# Altium integrated library TI Amplifiers and Linear Operational Amplifier High Speed.IntLib: 1100 symbols (part 19 of 44)
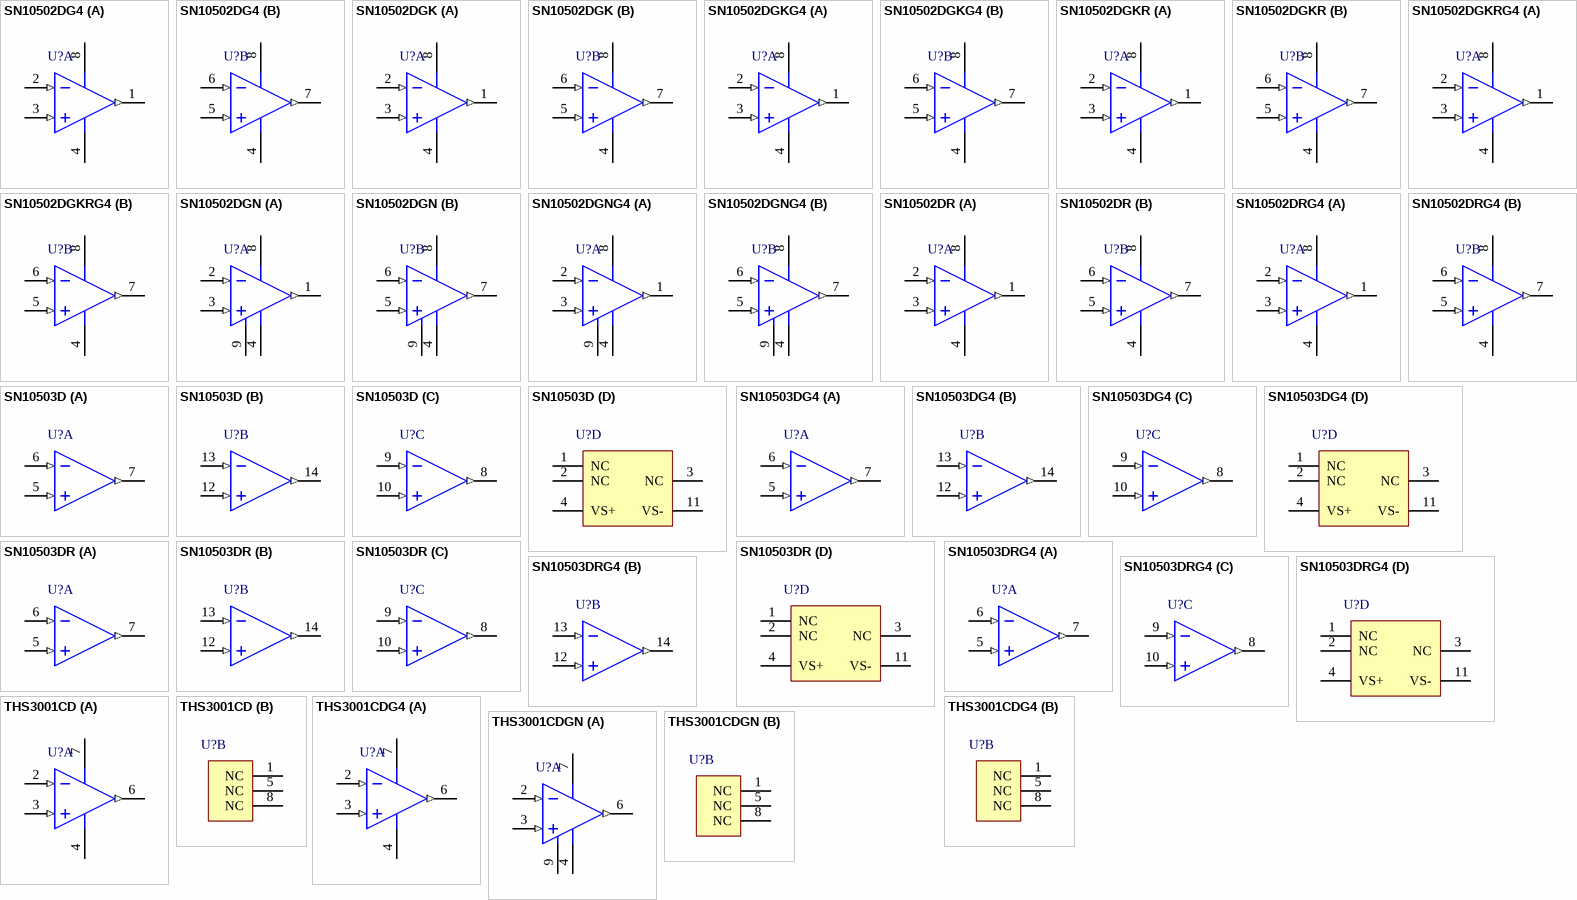
[diagram p69: symbols SN10502DG4 to THS3001CDGN]

## SN10502DR
designator U?
Low-Distortion High-Speed Rail-to-Rail Output Operational Amplifier, 2.7 to 16 V, -40 to 85 degC, 8-pin SOIC (D8), Green (RoHS & no Sb/Br); Manufacturer: Texas Instruments; PartNumber: SN10502DR; 2nd Harmonic(dBc): 78; 3rd Harmonic(dBc): 85; @ MHz: 5; Acl, min stable gain(V/V): 1; BW @ Acl(MHz): 100; Diff Gain(%): 0.007; Iib(Max)(nA): 5000; Iq per channel(Max)(mA): 22; Number of Channels: 2; Settling Time (0.1%)(Typ)(ns): 25; Slew Rate(Typ)(V/us): 900; Sub Family: High Output Current Amplifier (>=50mA), High Speed Amplifier (>=50MHz); THD (Fc is 1 MHz)(Typ)(dB): -78; Vio(Max)(mV): 30; Vn at Flatband(Typ)(nV/rtHz): 13; Vs(Max)(V): 16; Vs(Min)(V): 2.7; DatasheetVersion: SLOS408B; PackageVersion: 4040047-3/M, 06/2011; PackageReference: D8; PackageDescription: 8-Pin Plastic Small Outline, Body 4.9 x 3.9 mm, Pitch 1.27 mm; Supplier 1: Digi-Key; Supplier Part Number 1: SN10502DR-ND; Supplier 2: Newark; Supplier Part Number 2: 73H4402; Supplier 3: Mouser; Supplier Part Number 3: 595-SN10502DR; Diff Phase(deg): 0.007; Eco-Plan: Green (RoHS & no Sb/Br); Io(Typ)(mA): 100; Mounting Technology: Surface Mount; Code_JEDEC: MS-012; ComponentLink1Description: Manufacturer URL; ComponentLink1URL: http://www.ti.com/; ComponentLink2Description: Datasheet; ComponentLink2URL: http://www.ti.com/general/docs/lit/getliterature.tsp?genericPartNumber=SN10502&fileType=pdf; ComponentLink3Description: Package Specification; ComponentLink3URL: http://www.ti.com/litv/pdf/msoi002j
footprint TI-D8_N (SOIC, 8-Leads, Body 4.9x3.9mm, Pitch 1.27mm, IPC Medium Density)
footprint TI-D8_L (SOIC, 8-Leads, Body 4.9x3.9mm, Pitch 1.27mm, IPC High Density)
footprint TI-D8_M (SOIC, 8-Leads, Body 4.9x3.9mm, Pitch 1.27mm, IPC Low Density)
pins on every part: 4 VS- (power), 8 VS+ (power)
part A pins: 1 OUT1 (out), 2 IN1- (in), 3 IN1+ (in)
part B pins: 5 IN2+ (in), 6 IN2- (in), 7 OUT2 (out)

## SN10502DRG4
designator U?
Low-Distortion High-Speed Rail-to-Rail Output Operational Amplifier, 2.7 to 16 V, -40 to 85 degC, 8-pin SOIC (D8), Green (RoHS & no Sb/Br); Manufacturer: Texas Instruments; PartNumber: SN10502DRG4; 2nd Harmonic(dBc): 78; 3rd Harmonic(dBc): 85; @ MHz: 5; Acl, min stable gain(V/V): 1; BW @ Acl(MHz): 100; Diff Gain(%): 0.007; Iib(Max)(nA): 5000; Iq per channel(Max)(mA): 22; Number of Channels: 2; Settling Time (0.1%)(Typ)(ns): 25; Slew Rate(Typ)(V/us): 900; Sub Family: High Output Current Amplifier (>=50mA), High Speed Amplifier (>=50MHz); THD (Fc is 1 MHz)(Typ)(dB): -78; Vio(Max)(mV): 30; Vn at Flatband(Typ)(nV/rtHz): 13; Vs(Max)(V): 16; Vs(Min)(V): 2.7; DatasheetVersion: SLOS408B; PackageVersion: 4040047-3/M, 06/2011; PackageReference: D8; PackageDescription: 8-Pin Plastic Small Outline, Body 4.9 x 3.9 mm, Pitch 1.27 mm; Supplier 1: Digi-Key; Supplier Part Number 1: SN10502DRG4-ND; Supplier 2: Newark; Supplier Part Number 2: 67K8318; Supplier 3: Mouser; Supplier Part Number 3: 595-SN10502DRG4; Diff Phase(deg): 0.007; Eco-Plan: Green (RoHS & no Sb/Br); Io(Typ)(mA): 100; Mounting Technology: Surface Mount; Code_JEDEC: MS-012; ComponentLink1Description: Manufacturer URL; ComponentLink1URL: http://www.ti.com/; ComponentLink2Description: Datasheet; ComponentLink2URL: http://www.ti.com/general/docs/lit/getliterature.tsp?genericPartNumber=SN10502&fileType=pdf; ComponentLink3Description: Package Specification; ComponentLink3URL: http://www.ti.com/litv/pdf/msoi002j
footprint TI-D8_N (SOIC, 8-Leads, Body 4.9x3.9mm, Pitch 1.27mm, IPC Medium Density)
footprint TI-D8_L (SOIC, 8-Leads, Body 4.9x3.9mm, Pitch 1.27mm, IPC High Density)
footprint TI-D8_M (SOIC, 8-Leads, Body 4.9x3.9mm, Pitch 1.27mm, IPC Low Density)
pins on every part: 4 VS- (power), 8 VS+ (power)
part A pins: 1 OUT1 (out), 2 IN1- (in), 3 IN1+ (in)
part B pins: 5 IN2+ (in), 6 IN2- (in), 7 OUT2 (out)

## SN10503D
designator U?
Low-Distortion High-Speed Rail-to-Rail Output Operational Amplifier, 3 to 15 V, -40 to 85 degC, 14-pin SOIC (D14), Green (RoHS & no Sb/Br); Manufacturer: Texas Instruments; PartNumber: SN10503D; 2nd Harmonic(dBc): 78; 3rd Harmonic(dBc): 85; @ MHz: 5; Acl, min stable gain(V/V): 1; BW @ Acl(MHz): 100; Diff Gain(%): 0.007; Iib(Max)(nA): 5000; Iq per channel(Max)(mA): 22; Number of Channels: 3; Settling Time (0.1%)(Typ)(ns): 52; Slew Rate(Typ)(V/us): 900; Sub Family: High Output Current Amplifier (>=50mA), High Speed Amplifier (>=50MHz); THD (Fc is 1 MHz)(Typ)(dB): -78; Vio(Max)(mV): 30; Vn at Flatband(Typ)(nV/rtHz): 13; Vs(Max)(V): 15; DatasheetVersion: SLOS408B; PackageVersion: 4040047-5/M, 06/2011; PackageReference: D14; PackageDescription: 14-Pin Plastic Small Outline, Body 8.65 x 3.9 mm, Pitch 1.27 mm; Supplier 1: Digi-Key; Supplier Part Number 1: 296-14778-5-ND; Supplier 2: Newark; Supplier Part Number 2: 61H5392; Supplier 3: Mouser; Supplier Part Number 3: 595-SN10503D; Diff Phase(deg): 0.007; Eco-Plan: Green (RoHS & no Sb/Br); Io(Typ)(mA): 100; Vs(Min)(V): 3; Mounting Technology: Surface Mount; Code_JEDEC: MS-012; ComponentLink1Description: Manufacturer URL; ComponentLink1URL: http://www.ti.com/; ComponentLink2Description: Datasheet; ComponentLink2URL: http://www.ti.com/general/docs/lit/getliterature.tsp?genericPartNumber=SN10503&fileType=pdf; ComponentLink3Description: Package Specification; ComponentLink3URL: http://www.ti.com/lit/ml/mpds177g/mpds177g.pdf
footprint TI-D14_N (SOIC, 14-Leads, Body 8.65x3.9mm, Pitch 1.27mm, IPC Medium Density)
footprint TI-D14_L (SOIC, 14-Leads, Body 8.65x3.9mm, Pitch 1.27mm, IPC High Density)
footprint TI-D14_M (SOIC, 14-Leads, Body 8.65x3.9mm, Pitch 1.27mm, IPC Low Density)
part A pins: 5 IN1+ (in), 6 IN1- (in), 7 OUT1 (out)
part B pins: 12 IN2+ (in), 13 IN2- (in), 14 OUT2 (out)
part C pins: 8 OUT3 (out), 9 IN3- (in), 10 IN3+ (in)
part D pins: 1 NC, 2 NC, 3 NC, 4 VS+ (power), 11 VS- (power)

## SN10503DG4
designator U?
Low-Distortion High-Speed Rail-to-Rail Output Operational Amplifier, 3 to 15 V, -40 to 85 degC, 14-pin SOIC (D14), Green (RoHS & no Sb/Br); Manufacturer: Texas Instruments; PartNumber: SN10503DG4; 2nd Harmonic(dBc): 78; 3rd Harmonic(dBc): 85; @ MHz: 5; Acl, min stable gain(V/V): 1; BW @ Acl(MHz): 100; Diff Gain(%): 0.007; Iib(Max)(nA): 5000; Iq per channel(Max)(mA): 22; Number of Channels: 3; Settling Time (0.1%)(Typ)(ns): 52; Slew Rate(Typ)(V/us): 900; Sub Family: High Output Current Amplifier (>=50mA), High Speed Amplifier (>=50MHz); THD (Fc is 1 MHz)(Typ)(dB): -78; Vio(Max)(mV): 30; Vn at Flatband(Typ)(nV/rtHz): 13; Vs(Max)(V): 15; DatasheetVersion: SLOS408B; PackageVersion: 4040047-5/M, 06/2011; PackageReference: D14; PackageDescription: 14-Pin Plastic Small Outline, Body 8.65 x 3.9 mm, Pitch 1.27 mm; Supplier 1: Digi-Key; Supplier Part Number 1: SN10503DG4-ND; Supplier 2: Newark; Supplier Part Number 2: 04M0055; Supplier 3: Mouser; Supplier Part Number 3: 595-SN10503DG4; Diff Phase(deg): 0.007; Eco-Plan: Green (RoHS & no Sb/Br); Io(Typ)(mA): 100; Vs(Min)(V): 3; Mounting Technology: Surface Mount; Code_JEDEC: MS-012; ComponentLink1Description: Manufacturer URL; ComponentLink1URL: http://www.ti.com/; ComponentLink2Description: Datasheet; ComponentLink2URL: http://www.ti.com/general/docs/lit/getliterature.tsp?genericPartNumber=SN10503&fileType=pdf; ComponentLink3Description: Package Specification; ComponentLink3URL: http://www.ti.com/lit/ml/mpds177g/mpds177g.pdf
footprint TI-D14_N (SOIC, 14-Leads, Body 8.65x3.9mm, Pitch 1.27mm, IPC Medium Density)
footprint TI-D14_L (SOIC, 14-Leads, Body 8.65x3.9mm, Pitch 1.27mm, IPC High Density)
footprint TI-D14_M (SOIC, 14-Leads, Body 8.65x3.9mm, Pitch 1.27mm, IPC Low Density)
part A pins: 5 IN1+ (in), 6 IN1- (in), 7 OUT1 (out)
part B pins: 12 IN2+ (in), 13 IN2- (in), 14 OUT2 (out)
part C pins: 8 OUT3 (out), 9 IN3- (in), 10 IN3+ (in)
part D pins: 1 NC, 2 NC, 3 NC, 4 VS+ (power), 11 VS- (power)

## SN10503DR
designator U?
Low-Distortion High-Speed Rail-to-Rail Output Operational Amplifier, 3 to 15 V, -40 to 85 degC, 14-pin SOIC (D14), Green (RoHS & no Sb/Br); Manufacturer: Texas Instruments; PartNumber: SN10503DR; 2nd Harmonic(dBc): 78; 3rd Harmonic(dBc): 85; @ MHz: 5; Acl, min stable gain(V/V): 1; BW @ Acl(MHz): 100; Diff Gain(%): 0.007; Iib(Max)(nA): 5000; Iq per channel(Max)(mA): 22; Number of Channels: 3; Settling Time (0.1%)(Typ)(ns): 52; Slew Rate(Typ)(V/us): 900; Sub Family: High Output Current Amplifier (>=50mA), High Speed Amplifier (>=50MHz); THD (Fc is 1 MHz)(Typ)(dB): -78; Vio(Max)(mV): 30; Vn at Flatband(Typ)(nV/rtHz): 13; Vs(Max)(V): 15; DatasheetVersion: SLOS408B; PackageVersion: 4040047-5/M, 06/2011; PackageReference: D14; PackageDescription: 14-Pin Plastic Small Outline, Body 8.65 x 3.9 mm, Pitch 1.27 mm; Supplier 1: Digi-Key; Supplier Part Number 1: SN10503DR-ND; Supplier 2: Newark; Supplier Part Number 2: 61H5393; Supplier 3: Mouser; Supplier Part Number 3: 595-SN10503DR; Diff Phase(deg): 0.007; Eco-Plan: Green (RoHS & no Sb/Br); Io(Typ)(mA): 100; Vs(Min)(V): 3; Mounting Technology: Surface Mount; Code_JEDEC: MS-012; ComponentLink1Description: Manufacturer URL; ComponentLink1URL: http://www.ti.com/; ComponentLink2Description: Datasheet; ComponentLink2URL: http://www.ti.com/general/docs/lit/getliterature.tsp?genericPartNumber=SN10503&fileType=pdf; ComponentLink3Description: Package Specification; ComponentLink3URL: http://www.ti.com/lit/ml/mpds177g/mpds177g.pdf
footprint TI-D14_N (SOIC, 14-Leads, Body 8.65x3.9mm, Pitch 1.27mm, IPC Medium Density)
footprint TI-D14_L (SOIC, 14-Leads, Body 8.65x3.9mm, Pitch 1.27mm, IPC High Density)
footprint TI-D14_M (SOIC, 14-Leads, Body 8.65x3.9mm, Pitch 1.27mm, IPC Low Density)
part A pins: 5 IN1+ (in), 6 IN1- (in), 7 OUT1 (out)
part B pins: 12 IN2+ (in), 13 IN2- (in), 14 OUT2 (out)
part C pins: 8 OUT3 (out), 9 IN3- (in), 10 IN3+ (in)
part D pins: 1 NC, 2 NC, 3 NC, 4 VS+ (power), 11 VS- (power)

## SN10503DRG4
designator U?
Low-Distortion High-Speed Rail-to-Rail Output Operational Amplifier, 3 to 15 V, -40 to 85 degC, 14-pin SOIC (D14), Green (RoHS & no Sb/Br); Manufacturer: Texas Instruments; PartNumber: SN10503DRG4; 2nd Harmonic(dBc): 78; 3rd Harmonic(dBc): 85; @ MHz: 5; Acl, min stable gain(V/V): 1; BW @ Acl(MHz): 100; Diff Gain(%): 0.007; Iib(Max)(nA): 5000; Iq per channel(Max)(mA): 22; Number of Channels: 3; Settling Time (0.1%)(Typ)(ns): 52; Slew Rate(Typ)(V/us): 900; Sub Family: High Output Current Amplifier (>=50mA), High Speed Amplifier (>=50MHz); THD (Fc is 1 MHz)(Typ)(dB): -78; Vio(Max)(mV): 30; Vn at Flatband(Typ)(nV/rtHz): 13; Vs(Max)(V): 15; DatasheetVersion: SLOS408B; PackageVersion: 4040047-5/M, 06/2011; PackageReference: D14; PackageDescription: 14-Pin Plastic Small Outline, Body 8.65 x 3.9 mm, Pitch 1.27 mm; Supplier 1: Digi-Key; Supplier Part Number 1: SN10503DRG4-ND; Supplier 2: Newark; Supplier Part Number 2: 58K6487; Supplier 3: Mouser; Supplier Part Number 3: 595-SN10503DRG4; Diff Phase(deg): 0.007; Eco-Plan: Green (RoHS & no Sb/Br); Io(Typ)(mA): 100; Vs(Min)(V): 3; Mounting Technology: Surface Mount; Code_JEDEC: MS-012; ComponentLink1Description: Manufacturer URL; ComponentLink1URL: http://www.ti.com/; ComponentLink2Description: Datasheet; ComponentLink2URL: http://www.ti.com/general/docs/lit/getliterature.tsp?genericPartNumber=SN10503&fileType=pdf; ComponentLink3Description: Package Specification; ComponentLink3URL: http://www.ti.com/lit/ml/mpds177g/mpds177g.pdf
footprint TI-D14_N (SOIC, 14-Leads, Body 8.65x3.9mm, Pitch 1.27mm, IPC Medium Density)
footprint TI-D14_L (SOIC, 14-Leads, Body 8.65x3.9mm, Pitch 1.27mm, IPC High Density)
footprint TI-D14_M (SOIC, 14-Leads, Body 8.65x3.9mm, Pitch 1.27mm, IPC Low Density)
part A pins: 5 IN1+ (in), 6 IN1- (in), 7 OUT1 (out)
part B pins: 12 IN2+ (in), 13 IN2- (in), 14 OUT2 (out)
part C pins: 8 OUT3 (out), 9 IN3- (in), 10 IN3+ (in)
part D pins: 1 NC, 2 NC, 3 NC, 4 VS+ (power), 11 VS- (power)

## THS3001CD
designator U?
420 MHz Current-Feedback Amplifier, 9 to 32 V, 0 to 70 degC, 8-pin SOIC (D8), Green (RoHS & no Sb/Br); Manufacturer: Texas Instruments; PartNumber: THS3001CD; 2nd Harmonic(dBc): 91; 3rd Harmonic(dBc): 86; @ MHz: 5; Acl, min stable gain(V/V): 1; BW @ Acl(MHz): 420; Diff Gain(%): 0.01; Diff Phase(deg): 0.02; Iib(Max)(nA): 15000; Io(Typ)(mA): 120; Iq per channel(Max)(mA): 10; Settling Time (0.1%)(Typ)(ns): 40; Slew Rate(Typ)(V/us): 6500; Sub Family: High Output Current Amplifier (>=50mA), High Speed Amplifier (>=50MHz), High Supply Voltage Amplifier (>=30V); THD (Fc is 1 MHz)(Typ)(dB): -96; Vio(Max)(mV): 3; Vn at Flatband(Typ)(nV/rtHz): 1.6; Vs(Max)(V): 32; Vs(Min)(V): 9; DatasheetVersion: SLOS217H; PackageVersion: 4040047-3/M, 06/2011; PackageReference: D8; PackageDescription: 8-Pin Plastic Small Outline, Body 4.9 x 3.9 mm, Pitch 1.27 mm; Supplier 1: Digi-Key; Supplier Part Number 1: 296-1762-5-ND; Supplier 2: Farnell; Supplier Part Number 2: 1102958; Supplier 3: Newark; Supplier Part Number 3: 93B3678; Supplier 4: Mouser; Supplier Part Number 4: 595-THS3001CD; Eco-Plan: Green (RoHS & no Sb/Br); Number of Channels: 1; Mounting Technology: Surface Mount; Code_JEDEC: MS-012; ComponentLink1Description: Manufacturer URL; ComponentLink1URL: http://www.ti.com/; ComponentLink2Description: Datasheet; ComponentLink2URL: http://www.ti.com/general/docs/lit/getliterature.tsp?genericPartNumber=THS3001&fileType=pdf; ComponentLink3Description: Package Specification; ComponentLink3URL: http://www.ti.com/litv/pdf/msoi002j
footprint TI-D8_N (SOIC, 8-Leads, Body 4.9x3.9mm, Pitch 1.27mm, IPC Medium Density)
footprint TI-D8_L (SOIC, 8-Leads, Body 4.9x3.9mm, Pitch 1.27mm, IPC High Density)
footprint TI-D8_M (SOIC, 8-Leads, Body 4.9x3.9mm, Pitch 1.27mm, IPC Low Density)
part A pins: 2 IN- (in), 3 IN+ (in), 4 VCC- (power), 6 OUT (out), 7 VCC+ (power)
part B pins: 1 NC, 5 NC, 8 NC

## THS3001CDG4
designator U?
420 MHz Current-Feedback Amplifier, 9 to 32 V, 0 to 70 degC, 8-pin SOIC (D8), Green (RoHS & no Sb/Br); Manufacturer: Texas Instruments; PartNumber: THS3001CDG4; 2nd Harmonic(dBc): 91; 3rd Harmonic(dBc): 86; @ MHz: 5; Acl, min stable gain(V/V): 1; BW @ Acl(MHz): 420; Diff Gain(%): 0.01; Diff Phase(deg): 0.02; Iib(Max)(nA): 15000; Io(Typ)(mA): 120; Iq per channel(Max)(mA): 10; Settling Time (0.1%)(Typ)(ns): 40; Slew Rate(Typ)(V/us): 6500; Sub Family: High Output Current Amplifier (>=50mA), High Speed Amplifier (>=50MHz), High Supply Voltage Amplifier (>=30V); THD (Fc is 1 MHz)(Typ)(dB): -96; Vio(Max)(mV): 3; Vn at Flatband(Typ)(nV/rtHz): 1.6; Vs(Max)(V): 32; Vs(Min)(V): 9; DatasheetVersion: SLOS217H; PackageVersion: 4040047-3/M, 06/2011; PackageReference: D8; PackageDescription: 8-Pin Plastic Small Outline, Body 4.9 x 3.9 mm, Pitch 1.27 mm; Supplier 1: Digi-Key; Supplier Part Number 1: THS3001CDG4-ND; Supplier 2: Newark; Supplier Part Number 2: 54K0735; Supplier 3: Mouser; Supplier Part Number 3: 595-THS3001CDG4; Eco-Plan: Green (RoHS & no Sb/Br); Number of Channels: 1; Mounting Technology: Surface Mount; Code_JEDEC: MS-012; ComponentLink1Description: Manufacturer URL; ComponentLink1URL: http://www.ti.com/; ComponentLink2Description: Datasheet; ComponentLink2URL: http://www.ti.com/general/docs/lit/getliterature.tsp?genericPartNumber=THS3001&fileType=pdf; ComponentLink3Description: Package Specification; ComponentLink3URL: http://www.ti.com/litv/pdf/msoi002j
footprint TI-D8_N (SOIC, 8-Leads, Body 4.9x3.9mm, Pitch 1.27mm, IPC Medium Density)
footprint TI-D8_L (SOIC, 8-Leads, Body 4.9x3.9mm, Pitch 1.27mm, IPC High Density)
footprint TI-D8_M (SOIC, 8-Leads, Body 4.9x3.9mm, Pitch 1.27mm, IPC Low Density)
part A pins: 2 IN- (in), 3 IN+ (in), 4 VCC- (power), 6 OUT (out), 7 VCC+ (power)
part B pins: 1 NC, 5 NC, 8 NC

## THS3001CDGN
designator U?
420 MHz Current-Feedback Amplifier, 9 to 32 V, 0 to 70 degC, 8-pin SOP (DGN8), Green (RoHS & no Sb/Br); Manufacturer: Texas Instruments; PartNumber: THS3001CDGN; 2nd Harmonic(dBc): 91; 3rd Harmonic(dBc): 86; @ MHz: 5; Acl, min stable gain(V/V): 1; BW @ Acl(MHz): 420; Diff Gain(%): 0.01; Diff Phase(deg): 0.02; Iib(Max)(nA): 15000; Io(Typ)(mA): 120; Iq per channel(Max)(mA): 10; Settling Time (0.1%)(Typ)(ns): 40; Slew Rate(Typ)(V/us): 6500; Sub Family: High Output Current Amplifier (>=50mA), High Speed Amplifier (>=50MHz), High Supply Voltage Amplifier (>=30V); THD (Fc is 1 MHz)(Typ)(dB): -96; Vio(Max)(mV): 3; Vn at Flatband(Typ)(nV/rtHz): 1.6; Vs(Max)(V): 32; Vs(Min)(V): 9; DatasheetVersion: SLOS217H; PackageVersion: 4073271/F, 05/2011; PackageReference: DGN8-1760X1425TP; PackageDescription: 8-pin Plastic Small Outline, Body 3 x 3 mm, Pitch 0.65 mm; Supplier 1: Digi-Key; Supplier Part Number 1: 296-34197-5-ND; Supplier 2: Mouser; Supplier Part Number 2: 595-THS3001CDGN; Eco-Plan: Green (RoHS & no Sb/Br); Number of Channels: 1; Mounting Technology: Surface Mount; Code_JEDEC: MO-187; ComponentLink1Description: Manufacturer URL; ComponentLink1URL: http://www.ti.com/; ComponentLink2Description: Datasheet; ComponentLink2URL: http://www.ti.com/general/docs/lit/getliterature.tsp?genericPartNumber=THS3001&fileType=pdf; ComponentLink3Description: Package Specification; ComponentLink3URL: http://www.ti.com/litv/pdf/mpds046e
footprint TI-DGN8-1760X1425TP_N (SOP, 8-Leads, Body 3x3mm, Pitch 0.65mm, Thermal Pad 1.76x1.425mm, IPC Medium Density)
footprint TI-DGN8-1760X1425TP_L (SOP, 8-Leads, Body 3x3mm, Pitch 0.65mm, Thermal Pad 1.76x1.425mm, IPC High Density)
footprint TI-DGN8-1760X1425TP_M (SOP, 8-Leads, Body 3x3mm, Pitch 0.65mm, Thermal Pad 1.76 x 1.425 mm, IPC Low Density)
part A pins: 2 IN- (in), 3 IN+ (in), 4 VCC- (power), 6 OUT (out), 7 VCC+ (power), 9 EP (power)
part B pins: 1 NC, 5 NC, 8 NC

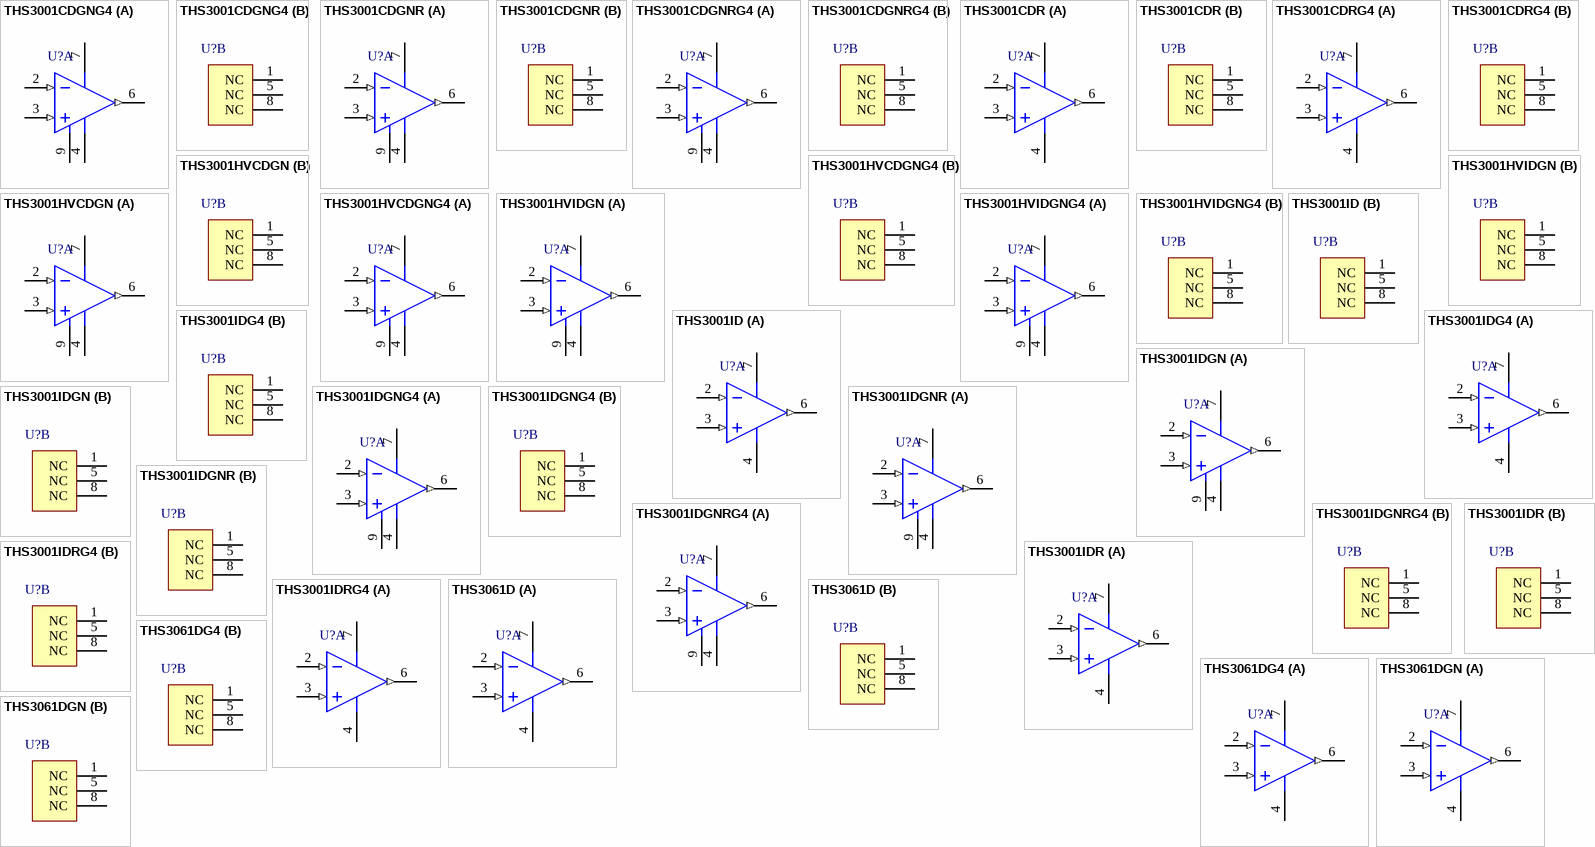
[diagram p23: symbols THS3001CDGNG4 to THS3061DGN]

## THS3001CDGNG4
designator U?
420 MHz Current-Feedback Amplifier, 9 to 32 V, 0 to 70 degC, 8-pin SOP (DGN8), Green (RoHS & no Sb/Br); Manufacturer: Texas Instruments; PartNumber: THS3001CDGNG4; 2nd Harmonic(dBc): 91; 3rd Harmonic(dBc): 86; @ MHz: 5; Acl, min stable gain(V/V): 1; BW @ Acl(MHz): 420; Diff Gain(%): 0.01; Diff Phase(deg): 0.02; Iib(Max)(nA): 15000; Io(Typ)(mA): 120; Iq per channel(Max)(mA): 10; Settling Time (0.1%)(Typ)(ns): 40; Slew Rate(Typ)(V/us): 6500; Sub Family: High Output Current Amplifier (>=50mA), High Speed Amplifier (>=50MHz), High Supply Voltage Amplifier (>=30V); THD (Fc is 1 MHz)(Typ)(dB): -96; Vio(Max)(mV): 3; Vn at Flatband(Typ)(nV/rtHz): 1.6; Vs(Max)(V): 32; Vs(Min)(V): 9; DatasheetVersion: SLOS217H; PackageVersion: 4073271/F, 05/2011; PackageReference: DGN8-1760X1425TP; PackageDescription: 8-pin Plastic Small Outline, Body 3 x 3 mm, Pitch 0.65 mm; Supplier 1: Digi-Key; Supplier Part Number 1: THS3001CDGNG4-ND; Supplier 2: Mouser; Supplier Part Number 2: 595-THS3001CDGNG4; Eco-Plan: Green (RoHS & no Sb/Br); Number of Channels: 1; Mounting Technology: Surface Mount; Code_JEDEC: MO-187; ComponentLink1Description: Manufacturer URL; ComponentLink1URL: http://www.ti.com/; ComponentLink2Description: Datasheet; ComponentLink2URL: http://www.ti.com/general/docs/lit/getliterature.tsp?genericPartNumber=THS3001&fileType=pdf; ComponentLink3Description: Package Specification; ComponentLink3URL: http://www.ti.com/litv/pdf/mpds046e
footprint TI-DGN8-1760X1425TP_N (SOP, 8-Leads, Body 3x3mm, Pitch 0.65mm, Thermal Pad 1.76x1.425mm, IPC Medium Density)
footprint TI-DGN8-1760X1425TP_L (SOP, 8-Leads, Body 3x3mm, Pitch 0.65mm, Thermal Pad 1.76x1.425mm, IPC High Density)
footprint TI-DGN8-1760X1425TP_M (SOP, 8-Leads, Body 3x3mm, Pitch 0.65mm, Thermal Pad 1.76 x 1.425 mm, IPC Low Density)
part A pins: 2 IN- (in), 3 IN+ (in), 4 VCC- (power), 6 OUT (out), 7 VCC+ (power), 9 EP (power)
part B pins: 1 NC, 5 NC, 8 NC

## THS3001CDGNR
designator U?
420 MHz Current-Feedback Amplifier, 9 to 32 V, 0 to 70 degC, 8-pin SOP (DGN8), Green (RoHS & no Sb/Br); Manufacturer: Texas Instruments; PartNumber: THS3001CDGNR; 2nd Harmonic(dBc): 91; 3rd Harmonic(dBc): 86; @ MHz: 5; Acl, min stable gain(V/V): 1; BW @ Acl(MHz): 420; Diff Gain(%): 0.01; Diff Phase(deg): 0.02; Iib(Max)(nA): 15000; Io(Typ)(mA): 120; Iq per channel(Max)(mA): 10; Settling Time (0.1%)(Typ)(ns): 40; Slew Rate(Typ)(V/us): 6500; Sub Family: High Output Current Amplifier (>=50mA), High Speed Amplifier (>=50MHz), High Supply Voltage Amplifier (>=30V); THD (Fc is 1 MHz)(Typ)(dB): -96; Vio(Max)(mV): 3; Vn at Flatband(Typ)(nV/rtHz): 1.6; Vs(Max)(V): 32; Vs(Min)(V): 9; DatasheetVersion: SLOS217H; PackageVersion: 4073271/F, 05/2011; PackageReference: DGN8-1760X1425TP; PackageDescription: 8-pin Plastic Small Outline, Body 3 x 3 mm, Pitch 0.65 mm; Supplier 1: Digi-Key; Supplier Part Number 1: THS3001CDGNR-ND; Supplier 2: Mouser; Supplier Part Number 2: 595-THS3001CDGNR; Eco-Plan: Green (RoHS & no Sb/Br); Number of Channels: 1; Mounting Technology: Surface Mount; Code_JEDEC: MO-187; ComponentLink1Description: Manufacturer URL; ComponentLink1URL: http://www.ti.com/; ComponentLink2Description: Datasheet; ComponentLink2URL: http://www.ti.com/general/docs/lit/getliterature.tsp?genericPartNumber=THS3001&fileType=pdf; ComponentLink3Description: Package Specification; ComponentLink3URL: http://www.ti.com/litv/pdf/mpds046e
footprint TI-DGN8-1760X1425TP_N (SOP, 8-Leads, Body 3x3mm, Pitch 0.65mm, Thermal Pad 1.76x1.425mm, IPC Medium Density)
footprint TI-DGN8-1760X1425TP_L (SOP, 8-Leads, Body 3x3mm, Pitch 0.65mm, Thermal Pad 1.76x1.425mm, IPC High Density)
footprint TI-DGN8-1760X1425TP_M (SOP, 8-Leads, Body 3x3mm, Pitch 0.65mm, Thermal Pad 1.76 x 1.425 mm, IPC Low Density)
part A pins: 2 IN- (in), 3 IN+ (in), 4 VCC- (power), 6 OUT (out), 7 VCC+ (power), 9 EP (power)
part B pins: 1 NC, 5 NC, 8 NC

## THS3001CDGNRG4
designator U?
420 MHz Current-Feedback Amplifier, 9 to 32 V, 0 to 70 degC, 8-pin SOP (DGN8), Green (RoHS & no Sb/Br); Manufacturer: Texas Instruments; PartNumber: THS3001CDGNRG4; 2nd Harmonic(dBc): 91; 3rd Harmonic(dBc): 86; @ MHz: 5; Acl, min stable gain(V/V): 1; BW @ Acl(MHz): 420; Diff Gain(%): 0.01; Diff Phase(deg): 0.02; Iib(Max)(nA): 15000; Io(Typ)(mA): 120; Iq per channel(Max)(mA): 10; Settling Time (0.1%)(Typ)(ns): 40; Slew Rate(Typ)(V/us): 6500; Sub Family: High Output Current Amplifier (>=50mA), High Speed Amplifier (>=50MHz), High Supply Voltage Amplifier (>=30V); THD (Fc is 1 MHz)(Typ)(dB): -96; Vio(Max)(mV): 3; Vn at Flatband(Typ)(nV/rtHz): 1.6; Vs(Max)(V): 32; Vs(Min)(V): 9; DatasheetVersion: SLOS217H; PackageVersion: 4073271/F, 05/2011; PackageReference: DGN8-1760X1425TP; PackageDescription: 8-pin Plastic Small Outline, Body 3 x 3 mm, Pitch 0.65 mm; Supplier 1: Digi-Key; Supplier Part Number 1: THS3001CDGNRG4-ND; Supplier 2: Mouser; Supplier Part Number 2: 595-THS3001CDGNRG4; Eco-Plan: Green (RoHS & no Sb/Br); Number of Channels: 1; Mounting Technology: Surface Mount; Code_JEDEC: MO-187; ComponentLink1Description: Manufacturer URL; ComponentLink1URL: http://www.ti.com/; ComponentLink2Description: Datasheet; ComponentLink2URL: http://www.ti.com/general/docs/lit/getliterature.tsp?genericPartNumber=THS3001&fileType=pdf; ComponentLink3Description: Package Specification; ComponentLink3URL: http://www.ti.com/litv/pdf/mpds046e
footprint TI-DGN8-1760X1425TP_N (SOP, 8-Leads, Body 3x3mm, Pitch 0.65mm, Thermal Pad 1.76x1.425mm, IPC Medium Density)
footprint TI-DGN8-1760X1425TP_L (SOP, 8-Leads, Body 3x3mm, Pitch 0.65mm, Thermal Pad 1.76x1.425mm, IPC High Density)
footprint TI-DGN8-1760X1425TP_M (SOP, 8-Leads, Body 3x3mm, Pitch 0.65mm, Thermal Pad 1.76 x 1.425 mm, IPC Low Density)
part A pins: 2 IN- (in), 3 IN+ (in), 4 VCC- (power), 6 OUT (out), 7 VCC+ (power), 9 EP (power)
part B pins: 1 NC, 5 NC, 8 NC

## THS3001CDR
designator U?
420 MHz Current-Feedback Amplifier, 9 to 32 V, 0 to 70 degC, 8-pin SOIC (D8), Green (RoHS & no Sb/Br); Manufacturer: Texas Instruments; PartNumber: THS3001CDR; 2nd Harmonic(dBc): 91; 3rd Harmonic(dBc): 86; @ MHz: 5; Acl, min stable gain(V/V): 1; BW @ Acl(MHz): 420; Diff Gain(%): 0.01; Diff Phase(deg): 0.02; Iib(Max)(nA): 15000; Io(Typ)(mA): 120; Iq per channel(Max)(mA): 10; Settling Time (0.1%)(Typ)(ns): 40; Slew Rate(Typ)(V/us): 6500; Sub Family: High Output Current Amplifier (>=50mA), High Speed Amplifier (>=50MHz), High Supply Voltage Amplifier (>=30V); THD (Fc is 1 MHz)(Typ)(dB): -96; Vio(Max)(mV): 3; Vn at Flatband(Typ)(nV/rtHz): 1.6; Vs(Max)(V): 32; Vs(Min)(V): 9; DatasheetVersion: SLOS217H; PackageVersion: 4040047-3/M, 06/2011; PackageReference: D8; PackageDescription: 8-Pin Plastic Small Outline, Body 4.9 x 3.9 mm, Pitch 1.27 mm; Supplier 1: Digi-Key; Supplier Part Number 1: THS3001CDR-ND; Supplier 2: Newark; Supplier Part Number 2: 76C6232; Supplier 3: Mouser; Supplier Part Number 3: 595-THS3001CDR; Eco-Plan: Green (RoHS & no Sb/Br); Number of Channels: 1; Mounting Technology: Surface Mount; Code_JEDEC: MS-012; ComponentLink1Description: Manufacturer URL; ComponentLink1URL: http://www.ti.com/; ComponentLink2Description: Datasheet; ComponentLink2URL: http://www.ti.com/general/docs/lit/getliterature.tsp?genericPartNumber=THS3001&fileType=pdf; ComponentLink3Description: Package Specification; ComponentLink3URL: http://www.ti.com/litv/pdf/msoi002j
footprint TI-D8_N (SOIC, 8-Leads, Body 4.9x3.9mm, Pitch 1.27mm, IPC Medium Density)
footprint TI-D8_L (SOIC, 8-Leads, Body 4.9x3.9mm, Pitch 1.27mm, IPC High Density)
footprint TI-D8_M (SOIC, 8-Leads, Body 4.9x3.9mm, Pitch 1.27mm, IPC Low Density)
part A pins: 2 IN- (in), 3 IN+ (in), 4 VCC- (power), 6 OUT (out), 7 VCC+ (power)
part B pins: 1 NC, 5 NC, 8 NC

## THS3001CDRG4
designator U?
420 MHz Current-Feedback Amplifier, 9 to 32 V, 0 to 70 degC, 8-pin SOIC (D8), Green (RoHS & no Sb/Br); Manufacturer: Texas Instruments; PartNumber: THS3001CDRG4; 2nd Harmonic(dBc): 91; 3rd Harmonic(dBc): 86; @ MHz: 5; Acl, min stable gain(V/V): 1; BW @ Acl(MHz): 420; Diff Gain(%): 0.01; Diff Phase(deg): 0.02; Iib(Max)(nA): 15000; Io(Typ)(mA): 120; Iq per channel(Max)(mA): 10; Settling Time (0.1%)(Typ)(ns): 40; Slew Rate(Typ)(V/us): 6500; Sub Family: High Output Current Amplifier (>=50mA), High Speed Amplifier (>=50MHz), High Supply Voltage Amplifier (>=30V); THD (Fc is 1 MHz)(Typ)(dB): -96; Vio(Max)(mV): 3; Vn at Flatband(Typ)(nV/rtHz): 1.6; Vs(Max)(V): 32; Vs(Min)(V): 9; DatasheetVersion: SLOS217H; PackageVersion: 4040047-3/M, 06/2011; PackageReference: D8; PackageDescription: 8-Pin Plastic Small Outline, Body 4.9 x 3.9 mm, Pitch 1.27 mm; Supplier 1: Digi-Key; Supplier Part Number 1: THS3001CDRG4-ND; Supplier 2: Mouser; Supplier Part Number 2: 595-THS3001CDRG4; Eco-Plan: Green (RoHS & no Sb/Br); Number of Channels: 1; Mounting Technology: Surface Mount; Code_JEDEC: MS-012; ComponentLink1Description: Manufacturer URL; ComponentLink1URL: http://www.ti.com/; ComponentLink2Description: Datasheet; ComponentLink2URL: http://www.ti.com/general/docs/lit/getliterature.tsp?genericPartNumber=THS3001&fileType=pdf; ComponentLink3Description: Package Specification; ComponentLink3URL: http://www.ti.com/litv/pdf/msoi002j
footprint TI-D8_N (SOIC, 8-Leads, Body 4.9x3.9mm, Pitch 1.27mm, IPC Medium Density)
footprint TI-D8_L (SOIC, 8-Leads, Body 4.9x3.9mm, Pitch 1.27mm, IPC High Density)
footprint TI-D8_M (SOIC, 8-Leads, Body 4.9x3.9mm, Pitch 1.27mm, IPC Low Density)
part A pins: 2 IN- (in), 3 IN+ (in), 4 VCC- (power), 6 OUT (out), 7 VCC+ (power)
part B pins: 1 NC, 5 NC, 8 NC

## THS3001HVCDGN
designator U?
420 MHz Current-Feedback Amplifier, 9 to 32 V, 0 to 70 degC, 8-pin SOP (DGN8), Green (RoHS & no Sb/Br); Manufacturer: Texas Instruments; PartNumber: THS3001HVCDGN; 2nd Harmonic(dBc): 91; 3rd Harmonic(dBc): 86; @ MHz: 5; Acl, min stable gain(V/V): 1; BW @ Acl(MHz): 420; Diff Gain(%): 0.01; Diff Phase(deg): 0.02; Iib(Max)(nA): 15000; Io(Typ)(mA): 120; Iq per channel(Max)(mA): 10; Settling Time (0.1%)(Typ)(ns): 40; Slew Rate(Typ)(V/us): 6500; Sub Family: High Output Current Amplifier (>=50mA), High Speed Amplifier (>=50MHz), High Supply Voltage Amplifier (>=30V); THD (Fc is 1 MHz)(Typ)(dB): -96; Vio(Max)(mV): 3; Vn at Flatband(Typ)(nV/rtHz): 1.6; Vs(Max)(V): 32; Vs(Min)(V): 9; DatasheetVersion: SLOS217H; PackageVersion: 4073271/F, 05/2011; PackageReference: DGN8-1760X1425TP; PackageDescription: 8-pin Plastic Small Outline, Body 3 x 3 mm, Pitch 0.65 mm; Supplier 1: Digi-Key; Supplier Part Number 1: THS3001HVCDGN-ND; Supplier 2: Mouser; Supplier Part Number 2: 595-THS3001HVCDGN; Eco-Plan: Green (RoHS & no Sb/Br); Number of Channels: 1; Mounting Technology: Surface Mount; Code_JEDEC: MO-187; ComponentLink1Description: Manufacturer URL; ComponentLink1URL: http://www.ti.com/; ComponentLink2Description: Datasheet; ComponentLink2URL: http://www.ti.com/general/docs/lit/getliterature.tsp?genericPartNumber=THS3001&fileType=pdf; ComponentLink3Description: Package Specification; ComponentLink3URL: http://www.ti.com/litv/pdf/mpds046e
footprint TI-DGN8-1760X1425TP_N (SOP, 8-Leads, Body 3x3mm, Pitch 0.65mm, Thermal Pad 1.76x1.425mm, IPC Medium Density)
footprint TI-DGN8-1760X1425TP_L (SOP, 8-Leads, Body 3x3mm, Pitch 0.65mm, Thermal Pad 1.76x1.425mm, IPC High Density)
footprint TI-DGN8-1760X1425TP_M (SOP, 8-Leads, Body 3x3mm, Pitch 0.65mm, Thermal Pad 1.76 x 1.425 mm, IPC Low Density)
part A pins: 2 IN- (in), 3 IN+ (in), 4 VCC- (power), 6 OUT (out), 7 VCC+ (power), 9 EP (power)
part B pins: 1 NC, 5 NC, 8 NC

## THS3001HVCDGNG4
designator U?
420 MHz Current-Feedback Amplifier, 9 to 32 V, 0 to 70 degC, 8-pin SOP (DGN8), Green (RoHS & no Sb/Br); Manufacturer: Texas Instruments; PartNumber: THS3001HVCDGNG4; 2nd Harmonic(dBc): 91; 3rd Harmonic(dBc): 86; @ MHz: 5; Acl, min stable gain(V/V): 1; BW @ Acl(MHz): 420; Diff Gain(%): 0.01; Diff Phase(deg): 0.02; Iib(Max)(nA): 15000; Io(Typ)(mA): 120; Iq per channel(Max)(mA): 10; Settling Time (0.1%)(Typ)(ns): 40; Slew Rate(Typ)(V/us): 6500; Sub Family: High Output Current Amplifier (>=50mA), High Speed Amplifier (>=50MHz), High Supply Voltage Amplifier (>=30V); THD (Fc is 1 MHz)(Typ)(dB): -96; Vio(Max)(mV): 3; Vn at Flatband(Typ)(nV/rtHz): 1.6; Vs(Max)(V): 32; Vs(Min)(V): 9; DatasheetVersion: SLOS217H; PackageVersion: 4073271/F, 05/2011; PackageReference: DGN8-1760X1425TP; PackageDescription: 8-pin Plastic Small Outline, Body 3 x 3 mm, Pitch 0.65 mm; Supplier 1: Digi-Key; Supplier Part Number 1: THS3001HVCDGNG4-ND; Supplier 2: Mouser; Supplier Part Number 2: 595-THS3001HVCDGNG4; Eco-Plan: Green (RoHS & no Sb/Br); Number of Channels: 1; Mounting Technology: Surface Mount; Code_JEDEC: MO-187; ComponentLink1Description: Manufacturer URL; ComponentLink1URL: http://www.ti.com/; ComponentLink2Description: Datasheet; ComponentLink2URL: http://www.ti.com/general/docs/lit/getliterature.tsp?genericPartNumber=THS3001&fileType=pdf; ComponentLink3Description: Package Specification; ComponentLink3URL: http://www.ti.com/litv/pdf/mpds046e
footprint TI-DGN8-1760X1425TP_N (SOP, 8-Leads, Body 3x3mm, Pitch 0.65mm, Thermal Pad 1.76x1.425mm, IPC Medium Density)
footprint TI-DGN8-1760X1425TP_L (SOP, 8-Leads, Body 3x3mm, Pitch 0.65mm, Thermal Pad 1.76x1.425mm, IPC High Density)
footprint TI-DGN8-1760X1425TP_M (SOP, 8-Leads, Body 3x3mm, Pitch 0.65mm, Thermal Pad 1.76 x 1.425 mm, IPC Low Density)
part A pins: 2 IN- (in), 3 IN+ (in), 4 VCC- (power), 6 OUT (out), 7 VCC+ (power), 9 EP (power)
part B pins: 1 NC, 5 NC, 8 NC

## THS3001HVIDGN
designator U?
420 MHz Current-Feedback Amplifier, 9 to 32 V, -40 to 85 degC, 8-pin SOP (DGN8), Green (RoHS & no Sb/Br); Manufacturer: Texas Instruments; PartNumber: THS3001HVIDGN; 2nd Harmonic(dBc): 91; 3rd Harmonic(dBc): 86; @ MHz: 5; Acl, min stable gain(V/V): 1; BW @ Acl(MHz): 420; Diff Gain(%): 0.01; Diff Phase(deg): 0.02; Iib(Max)(nA): 15000; Io(Typ)(mA): 120; Iq per channel(Max)(mA): 10; Settling Time (0.1%)(Typ)(ns): 40; Slew Rate(Typ)(V/us): 6500; Sub Family: High Output Current Amplifier (>=50mA), High Speed Amplifier (>=50MHz), High Supply Voltage Amplifier (>=30V); THD (Fc is 1 MHz)(Typ)(dB): -96; Vio(Max)(mV): 3; Vn at Flatband(Typ)(nV/rtHz): 1.6; Vs(Max)(V): 32; Vs(Min)(V): 9; DatasheetVersion: SLOS217H; PackageVersion: 4073271/F, 05/2011; PackageReference: DGN8-1760X1425TP; PackageDescription: 8-pin Plastic Small Outline, Body 3 x 3 mm, Pitch 0.65 mm; Supplier 1: Digi-Key; Supplier Part Number 1: 296-19419-5-ND; Supplier 2: Newark; Supplier Part Number 2: 37K4174; Supplier 3: Mouser; Supplier Part Number 3: 595-THS3001HVIDGN; Eco-Plan: Green (RoHS & no Sb/Br); Number of Channels: 1; Mounting Technology: Surface Mount; Code_JEDEC: MO-187; ComponentLink1Description: Manufacturer URL; ComponentLink1URL: http://www.ti.com/; ComponentLink2Description: Datasheet; ComponentLink2URL: http://www.ti.com/general/docs/lit/getliterature.tsp?genericPartNumber=THS3001&fileType=pdf; ComponentLink3Description: Package Specification; ComponentLink3URL: http://www.ti.com/litv/pdf/mpds046e
footprint TI-DGN8-1760X1425TP_N (SOP, 8-Leads, Body 3x3mm, Pitch 0.65mm, Thermal Pad 1.76x1.425mm, IPC Medium Density)
footprint TI-DGN8-1760X1425TP_L (SOP, 8-Leads, Body 3x3mm, Pitch 0.65mm, Thermal Pad 1.76x1.425mm, IPC High Density)
footprint TI-DGN8-1760X1425TP_M (SOP, 8-Leads, Body 3x3mm, Pitch 0.65mm, Thermal Pad 1.76 x 1.425 mm, IPC Low Density)
part A pins: 2 IN- (in), 3 IN+ (in), 4 VCC- (power), 6 OUT (out), 7 VCC+ (power), 9 EP (power)
part B pins: 1 NC, 5 NC, 8 NC

## THS3001HVIDGNG4
designator U?
420 MHz Current-Feedback Amplifier, 9 to 32 V, -40 to 85 degC, 8-pin SOP (DGN8), Green (RoHS & no Sb/Br); Manufacturer: Texas Instruments; PartNumber: THS3001HVIDGNG4; 2nd Harmonic(dBc): 91; 3rd Harmonic(dBc): 86; @ MHz: 5; Acl, min stable gain(V/V): 1; BW @ Acl(MHz): 420; Diff Gain(%): 0.01; Diff Phase(deg): 0.02; Iib(Max)(nA): 15000; Io(Typ)(mA): 120; Iq per channel(Max)(mA): 10; Settling Time (0.1%)(Typ)(ns): 40; Slew Rate(Typ)(V/us): 6500; Sub Family: High Output Current Amplifier (>=50mA), High Speed Amplifier (>=50MHz), High Supply Voltage Amplifier (>=30V); THD (Fc is 1 MHz)(Typ)(dB): -96; Vio(Max)(mV): 3; Vn at Flatband(Typ)(nV/rtHz): 1.6; Vs(Max)(V): 32; Vs(Min)(V): 9; DatasheetVersion: SLOS217H; PackageVersion: 4073271/F, 05/2011; PackageReference: DGN8-1760X1425TP; PackageDescription: 8-pin Plastic Small Outline, Body 3 x 3 mm, Pitch 0.65 mm; Supplier 1: Digi-Key; Supplier Part Number 1: THS3001HVIDGNG4-ND; Supplier 2: Mouser; Supplier Part Number 2: 595-THS3001HVIDGNG4; Eco-Plan: Green (RoHS & no Sb/Br); Number of Channels: 1; Mounting Technology: Surface Mount; Code_JEDEC: MO-187; ComponentLink1Description: Manufacturer URL; ComponentLink1URL: http://www.ti.com/; ComponentLink2Description: Datasheet; ComponentLink2URL: http://www.ti.com/general/docs/lit/getliterature.tsp?genericPartNumber=THS3001&fileType=pdf; ComponentLink3Description: Package Specification; ComponentLink3URL: http://www.ti.com/litv/pdf/mpds046e
footprint TI-DGN8-1760X1425TP_N (SOP, 8-Leads, Body 3x3mm, Pitch 0.65mm, Thermal Pad 1.76x1.425mm, IPC Medium Density)
footprint TI-DGN8-1760X1425TP_L (SOP, 8-Leads, Body 3x3mm, Pitch 0.65mm, Thermal Pad 1.76x1.425mm, IPC High Density)
footprint TI-DGN8-1760X1425TP_M (SOP, 8-Leads, Body 3x3mm, Pitch 0.65mm, Thermal Pad 1.76 x 1.425 mm, IPC Low Density)
part A pins: 2 IN- (in), 3 IN+ (in), 4 VCC- (power), 6 OUT (out), 7 VCC+ (power), 9 EP (power)
part B pins: 1 NC, 5 NC, 8 NC

## THS3001ID
designator U?
420 MHz Current-Feedback Amplifier, 9 to 32 V, -40 to 85 degC, 8-pin SOIC (D8), Green (RoHS & no Sb/Br); Manufacturer: Texas Instruments; PartNumber: THS3001ID; 2nd Harmonic(dBc): 91; 3rd Harmonic(dBc): 86; @ MHz: 5; Acl, min stable gain(V/V): 1; BW @ Acl(MHz): 420; Diff Gain(%): 0.01; Diff Phase(deg): 0.02; Iib(Max)(nA): 15000; Io(Typ)(mA): 120; Iq per channel(Max)(mA): 10; Settling Time (0.1%)(Typ)(ns): 40; Slew Rate(Typ)(V/us): 6500; Sub Family: High Output Current Amplifier (>=50mA), High Speed Amplifier (>=50MHz), High Supply Voltage Amplifier (>=30V); THD (Fc is 1 MHz)(Typ)(dB): -96; Vio(Max)(mV): 3; Vn at Flatband(Typ)(nV/rtHz): 1.6; Vs(Max)(V): 32; Vs(Min)(V): 9; DatasheetVersion: SLOS217H; PackageVersion: 4040047-3/M, 06/2011; PackageReference: D8; PackageDescription: 8-Pin Plastic Small Outline, Body 4.9 x 3.9 mm, Pitch 1.27 mm; Supplier 1: Digi-Key; Supplier Part Number 1: 296-7507-5-ND; Supplier 2: Farnell; Supplier Part Number 2: 1102959; Supplier 3: Newark; Supplier Part Number 3: 24M8254; Supplier 4: Newark; Supplier Part Number 4: 49H4419; Supplier 5: Mouser; Supplier Part Number 5: 595-THS3001ID; Eco-Plan: Green (RoHS & no Sb/Br); Number of Channels: 1; Mounting Technology: Surface Mount; Code_JEDEC: MS-012; ComponentLink1Description: Manufacturer URL; ComponentLink1URL: http://www.ti.com/; ComponentLink2Description: Datasheet; ComponentLink2URL: http://www.ti.com/general/docs/lit/getliterature.tsp?genericPartNumber=THS3001&fileType=pdf; ComponentLink3Description: Package Specification; ComponentLink3URL: http://www.ti.com/litv/pdf/msoi002j
footprint TI-D8_N (SOIC, 8-Leads, Body 4.9x3.9mm, Pitch 1.27mm, IPC Medium Density)
footprint TI-D8_L (SOIC, 8-Leads, Body 4.9x3.9mm, Pitch 1.27mm, IPC High Density)
footprint TI-D8_M (SOIC, 8-Leads, Body 4.9x3.9mm, Pitch 1.27mm, IPC Low Density)
part A pins: 2 IN- (in), 3 IN+ (in), 4 VCC- (power), 6 OUT (out), 7 VCC+ (power)
part B pins: 1 NC, 5 NC, 8 NC

## THS3001IDG4
designator U?
420 MHz Current-Feedback Amplifier, 9 to 32 V, -40 to 85 degC, 8-pin SOIC (D8), Green (RoHS & no Sb/Br); Manufacturer: Texas Instruments; PartNumber: THS3001IDG4; 2nd Harmonic(dBc): 91; 3rd Harmonic(dBc): 86; @ MHz: 5; Acl, min stable gain(V/V): 1; BW @ Acl(MHz): 420; Diff Gain(%): 0.01; Diff Phase(deg): 0.02; Iib(Max)(nA): 15000; Io(Typ)(mA): 120; Iq per channel(Max)(mA): 10; Settling Time (0.1%)(Typ)(ns): 40; Slew Rate(Typ)(V/us): 6500; Sub Family: High Output Current Amplifier (>=50mA), High Speed Amplifier (>=50MHz), High Supply Voltage Amplifier (>=30V); THD (Fc is 1 MHz)(Typ)(dB): -96; Vio(Max)(mV): 3; Vn at Flatband(Typ)(nV/rtHz): 1.6; Vs(Max)(V): 32; Vs(Min)(V): 9; DatasheetVersion: SLOS217H; PackageVersion: 4040047-3/M, 06/2011; PackageReference: D8; PackageDescription: 8-Pin Plastic Small Outline, Body 4.9 x 3.9 mm, Pitch 1.27 mm; Supplier 1: Digi-Key; Supplier Part Number 1: THS3001IDG4-ND; Supplier 2: Newark; Supplier Part Number 2: 66K4316; Supplier 3: Mouser; Supplier Part Number 3: 595-THS3001IDG4; Eco-Plan: Green (RoHS & no Sb/Br); Number of Channels: 1; Mounting Technology: Surface Mount; Code_JEDEC: MS-012; ComponentLink1Description: Manufacturer URL; ComponentLink1URL: http://www.ti.com/; ComponentLink2Description: Datasheet; ComponentLink2URL: http://www.ti.com/general/docs/lit/getliterature.tsp?genericPartNumber=THS3001&fileType=pdf; ComponentLink3Description: Package Specification; ComponentLink3URL: http://www.ti.com/litv/pdf/msoi002j
footprint TI-D8_N (SOIC, 8-Leads, Body 4.9x3.9mm, Pitch 1.27mm, IPC Medium Density)
footprint TI-D8_L (SOIC, 8-Leads, Body 4.9x3.9mm, Pitch 1.27mm, IPC High Density)
footprint TI-D8_M (SOIC, 8-Leads, Body 4.9x3.9mm, Pitch 1.27mm, IPC Low Density)
part A pins: 2 IN- (in), 3 IN+ (in), 4 VCC- (power), 6 OUT (out), 7 VCC+ (power)
part B pins: 1 NC, 5 NC, 8 NC

## THS3001IDGN
designator U?
420 MHz Current-Feedback Amplifier, 9 to 32 V, -40 to 85 degC, 8-pin SOP (DGN8), Green (RoHS & no Sb/Br); Manufacturer: Texas Instruments; PartNumber: THS3001IDGN; 2nd Harmonic(dBc): 91; 3rd Harmonic(dBc): 86; @ MHz: 5; Acl, min stable gain(V/V): 1; BW @ Acl(MHz): 420; Diff Gain(%): 0.01; Diff Phase(deg): 0.02; Iib(Max)(nA): 15000; Io(Typ)(mA): 120; Iq per channel(Max)(mA): 10; Settling Time (0.1%)(Typ)(ns): 40; Slew Rate(Typ)(V/us): 6500; Sub Family: High Output Current Amplifier (>=50mA), High Speed Amplifier (>=50MHz), High Supply Voltage Amplifier (>=30V); THD (Fc is 1 MHz)(Typ)(dB): -96; Vio(Max)(mV): 3; Vn at Flatband(Typ)(nV/rtHz): 1.6; Vs(Max)(V): 32; Vs(Min)(V): 9; DatasheetVersion: SLOS217H; PackageVersion: 4073271/F, 05/2011; PackageReference: DGN8-1760X1425TP; PackageDescription: 8-pin Plastic Small Outline, Body 3 x 3 mm, Pitch 0.65 mm; Supplier 1: Digi-Key; Supplier Part Number 1: 296-34198-5-ND; Supplier 2: Newark; Supplier Part Number 2: 31C8413; Supplier 3: Mouser; Supplier Part Number 3: 595-THS3001IDGN; Eco-Plan: Green (RoHS & no Sb/Br); Number of Channels: 1; Mounting Technology: Surface Mount; Code_JEDEC: MO-187; ComponentLink1Description: Manufacturer URL; ComponentLink1URL: http://www.ti.com/; ComponentLink2Description: Datasheet; ComponentLink2URL: http://www.ti.com/general/docs/lit/getliterature.tsp?genericPartNumber=THS3001&fileType=pdf; ComponentLink3Description: Package Specification; ComponentLink3URL: http://www.ti.com/litv/pdf/mpds046e
footprint TI-DGN8-1760X1425TP_N (SOP, 8-Leads, Body 3x3mm, Pitch 0.65mm, Thermal Pad 1.76x1.425mm, IPC Medium Density)
footprint TI-DGN8-1760X1425TP_L (SOP, 8-Leads, Body 3x3mm, Pitch 0.65mm, Thermal Pad 1.76x1.425mm, IPC High Density)
footprint TI-DGN8-1760X1425TP_M (SOP, 8-Leads, Body 3x3mm, Pitch 0.65mm, Thermal Pad 1.76 x 1.425 mm, IPC Low Density)
part A pins: 2 IN- (in), 3 IN+ (in), 4 VCC- (power), 6 OUT (out), 7 VCC+ (power), 9 EP (power)
part B pins: 1 NC, 5 NC, 8 NC

## THS3001IDGNG4
designator U?
420 MHz Current-Feedback Amplifier, 9 to 32 V, -40 to 85 degC, 8-pin SOP (DGN8), Green (RoHS & no Sb/Br); Manufacturer: Texas Instruments; PartNumber: THS3001IDGNG4; 2nd Harmonic(dBc): 91; 3rd Harmonic(dBc): 86; @ MHz: 5; Acl, min stable gain(V/V): 1; BW @ Acl(MHz): 420; Diff Gain(%): 0.01; Diff Phase(deg): 0.02; Iib(Max)(nA): 15000; Io(Typ)(mA): 120; Iq per channel(Max)(mA): 10; Settling Time (0.1%)(Typ)(ns): 40; Slew Rate(Typ)(V/us): 6500; Sub Family: High Output Current Amplifier (>=50mA), High Speed Amplifier (>=50MHz), High Supply Voltage Amplifier (>=30V); THD (Fc is 1 MHz)(Typ)(dB): -96; Vio(Max)(mV): 3; Vn at Flatband(Typ)(nV/rtHz): 1.6; Vs(Max)(V): 32; Vs(Min)(V): 9; DatasheetVersion: SLOS217H; PackageVersion: 4073271/F, 05/2011; PackageReference: DGN8-1760X1425TP; PackageDescription: 8-pin Plastic Small Outline, Body 3 x 3 mm, Pitch 0.65 mm; Supplier 1: Digi-Key; Supplier Part Number 1: THS3001IDGNG4-ND; Supplier 2: Farnell; Supplier Part Number 2: 1234978; Supplier 3: Newark; Supplier Part Number 3: 13M3106; Supplier 4: Mouser; Supplier Part Number 4: 595-THS3001IDGNG4; Eco-Plan: Green (RoHS & no Sb/Br); Number of Channels: 1; Mounting Technology: Surface Mount; Code_JEDEC: MO-187; ComponentLink1Description: Manufacturer URL; ComponentLink1URL: http://www.ti.com/; ComponentLink2Description: Datasheet; ComponentLink2URL: http://www.ti.com/general/docs/lit/getliterature.tsp?genericPartNumber=THS3001&fileType=pdf; ComponentLink3Description: Package Specification; ComponentLink3URL: http://www.ti.com/litv/pdf/mpds046e
footprint TI-DGN8-1760X1425TP_N (SOP, 8-Leads, Body 3x3mm, Pitch 0.65mm, Thermal Pad 1.76x1.425mm, IPC Medium Density)
footprint TI-DGN8-1760X1425TP_L (SOP, 8-Leads, Body 3x3mm, Pitch 0.65mm, Thermal Pad 1.76x1.425mm, IPC High Density)
footprint TI-DGN8-1760X1425TP_M (SOP, 8-Leads, Body 3x3mm, Pitch 0.65mm, Thermal Pad 1.76 x 1.425 mm, IPC Low Density)
part A pins: 2 IN- (in), 3 IN+ (in), 4 VCC- (power), 6 OUT (out), 7 VCC+ (power), 9 EP (power)
part B pins: 1 NC, 5 NC, 8 NC

## THS3001IDGNR
designator U?
420 MHz Current-Feedback Amplifier, 9 to 32 V, -40 to 85 degC, 8-pin SOP (DGN8), Green (RoHS & no Sb/Br); Manufacturer: Texas Instruments; PartNumber: THS3001IDGNR; 2nd Harmonic(dBc): 91; 3rd Harmonic(dBc): 86; @ MHz: 5; Acl, min stable gain(V/V): 1; BW @ Acl(MHz): 420; Diff Gain(%): 0.01; Diff Phase(deg): 0.02; Iib(Max)(nA): 15000; Io(Typ)(mA): 120; Iq per channel(Max)(mA): 10; Settling Time (0.1%)(Typ)(ns): 40; Slew Rate(Typ)(V/us): 6500; Sub Family: High Output Current Amplifier (>=50mA), High Speed Amplifier (>=50MHz), High Supply Voltage Amplifier (>=30V); THD (Fc is 1 MHz)(Typ)(dB): -96; Vio(Max)(mV): 3; Vn at Flatband(Typ)(nV/rtHz): 1.6; Vs(Max)(V): 32; Vs(Min)(V): 9; DatasheetVersion: SLOS217H; PackageVersion: 4073271/F, 05/2011; PackageReference: DGN8-1760X1425TP; PackageDescription: 8-pin Plastic Small Outline, Body 3 x 3 mm, Pitch 0.65 mm; Supplier 1: Digi-Key; Supplier Part Number 1: 296-12006-2-ND; Supplier 2: Digi-Key; Supplier Part Number 2: 296-12006-1-ND; Supplier 3: Digi-Key; Supplier Part Number 3: 296-12006-6-ND; Supplier 4: Newark; Supplier Part Number 4: 76C6233; Supplier 5: Mouser; Supplier Part Number 5: 595-THS3001IDGNR; Eco-Plan: Green (RoHS & no Sb/Br); Number of Channels: 1; Mounting Technology: Surface Mount; Code_JEDEC: MO-187; ComponentLink1Description: Manufacturer URL; ComponentLink1URL: http://www.ti.com/; ComponentLink2Description: Datasheet; ComponentLink2URL: http://www.ti.com/general/docs/lit/getliterature.tsp?genericPartNumber=THS3001&fileType=pdf; ComponentLink3Description: Package Specification; ComponentLink3URL: http://www.ti.com/litv/pdf/mpds046e
footprint TI-DGN8-1760X1425TP_N (SOP, 8-Leads, Body 3x3mm, Pitch 0.65mm, Thermal Pad 1.76x1.425mm, IPC Medium Density)
footprint TI-DGN8-1760X1425TP_L (SOP, 8-Leads, Body 3x3mm, Pitch 0.65mm, Thermal Pad 1.76x1.425mm, IPC High Density)
footprint TI-DGN8-1760X1425TP_M (SOP, 8-Leads, Body 3x3mm, Pitch 0.65mm, Thermal Pad 1.76 x 1.425 mm, IPC Low Density)
part A pins: 2 IN- (in), 3 IN+ (in), 4 VCC- (power), 6 OUT (out), 7 VCC+ (power), 9 EP (power)
part B pins: 1 NC, 5 NC, 8 NC

## THS3001IDGNRG4
designator U?
420 MHz Current-Feedback Amplifier, 9 to 32 V, -40 to 85 degC, 8-pin SOP (DGN8), Green (RoHS & no Sb/Br); Manufacturer: Texas Instruments; PartNumber: THS3001IDGNRG4; 2nd Harmonic(dBc): 91; 3rd Harmonic(dBc): 86; @ MHz: 5; Acl, min stable gain(V/V): 1; BW @ Acl(MHz): 420; Diff Gain(%): 0.01; Diff Phase(deg): 0.02; Iib(Max)(nA): 15000; Io(Typ)(mA): 120; Iq per channel(Max)(mA): 10; Settling Time (0.1%)(Typ)(ns): 40; Slew Rate(Typ)(V/us): 6500; Sub Family: High Output Current Amplifier (>=50mA), High Speed Amplifier (>=50MHz), High Supply Voltage Amplifier (>=30V); THD (Fc is 1 MHz)(Typ)(dB): -96; Vio(Max)(mV): 3; Vn at Flatband(Typ)(nV/rtHz): 1.6; Vs(Max)(V): 32; Vs(Min)(V): 9; DatasheetVersion: SLOS217H; PackageVersion: 4073271/F, 05/2011; PackageReference: DGN8-1760X1425TP; PackageDescription: 8-pin Plastic Small Outline, Body 3 x 3 mm, Pitch 0.65 mm; Supplier 1: Digi-Key; Supplier Part Number 1: THS3001IDGNRG4-ND; Supplier 2: Newark; Supplier Part Number 2: 71J7923; Supplier 3: Mouser; Supplier Part Number 3: 595-THS3001IDGNRG4; Eco-Plan: Green (RoHS & no Sb/Br); Number of Channels: 1; Mounting Technology: Surface Mount; Code_JEDEC: MO-187; ComponentLink1Description: Manufacturer URL; ComponentLink1URL: http://www.ti.com/; ComponentLink2Description: Datasheet; ComponentLink2URL: http://www.ti.com/general/docs/lit/getliterature.tsp?genericPartNumber=THS3001&fileType=pdf; ComponentLink3Description: Package Specification; ComponentLink3URL: http://www.ti.com/litv/pdf/mpds046e
footprint TI-DGN8-1760X1425TP_N (SOP, 8-Leads, Body 3x3mm, Pitch 0.65mm, Thermal Pad 1.76x1.425mm, IPC Medium Density)
footprint TI-DGN8-1760X1425TP_L (SOP, 8-Leads, Body 3x3mm, Pitch 0.65mm, Thermal Pad 1.76x1.425mm, IPC High Density)
footprint TI-DGN8-1760X1425TP_M (SOP, 8-Leads, Body 3x3mm, Pitch 0.65mm, Thermal Pad 1.76 x 1.425 mm, IPC Low Density)
part A pins: 2 IN- (in), 3 IN+ (in), 4 VCC- (power), 6 OUT (out), 7 VCC+ (power), 9 EP (power)
part B pins: 1 NC, 5 NC, 8 NC

## THS3001IDR
designator U?
420 MHz Current-Feedback Amplifier, 9 to 32 V, -40 to 85 degC, 8-pin SOIC (D8), Green (RoHS & no Sb/Br); Manufacturer: Texas Instruments; PartNumber: THS3001IDR; 2nd Harmonic(dBc): 91; 3rd Harmonic(dBc): 86; @ MHz: 5; Acl, min stable gain(V/V): 1; BW @ Acl(MHz): 420; Diff Gain(%): 0.01; Diff Phase(deg): 0.02; Iib(Max)(nA): 15000; Io(Typ)(mA): 120; Iq per channel(Max)(mA): 10; Settling Time (0.1%)(Typ)(ns): 40; Slew Rate(Typ)(V/us): 6500; Sub Family: High Output Current Amplifier (>=50mA), High Speed Amplifier (>=50MHz), High Supply Voltage Amplifier (>=30V); THD (Fc is 1 MHz)(Typ)(dB): -96; Vio(Max)(mV): 3; Vn at Flatband(Typ)(nV/rtHz): 1.6; Vs(Max)(V): 32; Vs(Min)(V): 9; DatasheetVersion: SLOS217H; PackageVersion: 4040047-3/M, 06/2011; PackageReference: D8; PackageDescription: 8-Pin Plastic Small Outline, Body 4.9 x 3.9 mm, Pitch 1.27 mm; Supplier 1: Digi-Key; Supplier Part Number 1: THS3001IDR-ND; Supplier 2: Newark; Supplier Part Number 2: 76C6234; Supplier 3: Mouser; Supplier Part Number 3: 595-THS3001IDR; Eco-Plan: Green (RoHS & no Sb/Br); Number of Channels: 1; Mounting Technology: Surface Mount; Code_JEDEC: MS-012; ComponentLink1Description: Manufacturer URL; ComponentLink1URL: http://www.ti.com/; ComponentLink2Description: Datasheet; ComponentLink2URL: http://www.ti.com/general/docs/lit/getliterature.tsp?genericPartNumber=THS3001&fileType=pdf; ComponentLink3Description: Package Specification; ComponentLink3URL: http://www.ti.com/litv/pdf/msoi002j
footprint TI-D8_N (SOIC, 8-Leads, Body 4.9x3.9mm, Pitch 1.27mm, IPC Medium Density)
footprint TI-D8_L (SOIC, 8-Leads, Body 4.9x3.9mm, Pitch 1.27mm, IPC High Density)
footprint TI-D8_M (SOIC, 8-Leads, Body 4.9x3.9mm, Pitch 1.27mm, IPC Low Density)
part A pins: 2 IN- (in), 3 IN+ (in), 4 VCC- (power), 6 OUT (out), 7 VCC+ (power)
part B pins: 1 NC, 5 NC, 8 NC